# EAGLE library part DWM1000 (library decawave)
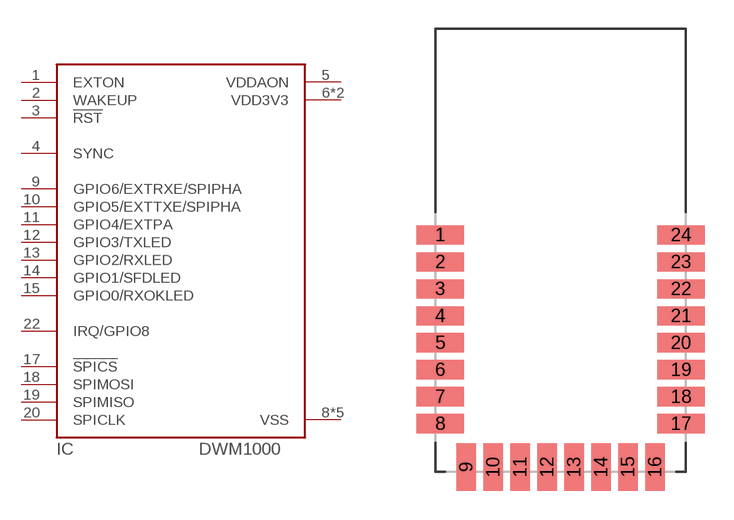
[diagram p0: symbol with the pads of DWM1000; footprint DWM1000]

Designator prefix IC

## DWM1000  [DWM1000]
1  EXTON
2  WAKEUP
3  !RST
4  SYNC
5  VDDAON
6  VDD3V3
7  VDD3V3
8  VSS
9  GPIO6/EXTRXE/SPIPHA
10  GPIO5/EXTTXE/SPIPHA
11  GPIO4/EXTPA
12  GPIO3/TXLED
13  GPIO2/RXLED
14  GPIO1/SFDLED
15  GPIO0/RXOKLED
16  VSS
17  !SPICS
18  SPIMOSI
19  SPIMISO
20  SPICLK
21  VSS
22  IRQ/GPIO8
23  VSS
24  VSS

## Footprint DWM1000 (pad centres in mm)
smd 2.45 x 1: 1 -6.25,0.8; 2 -6.25,-0.6; 3 -6.25,-2; 4 -6.25,-3.4; 5 -6.25,-4.8; 6 -6.25,-6.2; 7 -6.25,-7.6; 8 -6.25,-9; 17 6.25,-9; 18 6.25,-7.6; 19 6.25,-6.2; 20 6.25,-4.8; 21 6.25,-3.4; 22 6.25,-2; 23 6.25,-0.6; 24 6.25,0.8
smd 1 x 2.45: 9 -4.9,-11.25; 10 -3.5,-11.25; 11 -2.1,-11.25; 12 -0.7,-11.25; 13 0.7,-11.25; 14 2.1,-11.25; 15 3.5,-11.25; 16 4.9,-11.25